# Altium schematic symbol library Crystall_Generic.SchLib: 1 symbol
Pins are listed as number, name and electrical type; pins without a type are passive.

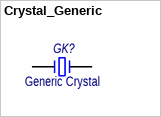
[diagram p0: symbol Crystal_Generic]

## Crystal_Generic
designator GK?, comment Generic Crystal
Generic 2-Pin Crystal Oscillator; Потребление, Вт: 0.0; Назначение: 2-Pin Crystal Oscillator; Наименование: Generic Crystal
footprint SMD_5032_2Pin_Crystal_Oscillator
footprint DT-38T
footprint SMD_5032_2Pin_Crystall_Oscillator_m
footprint SMD_3215_2Pin_Crystal_Oscillator
pins: 1, 2